# EAGLE library part HEDL554X (library robotter_connector)
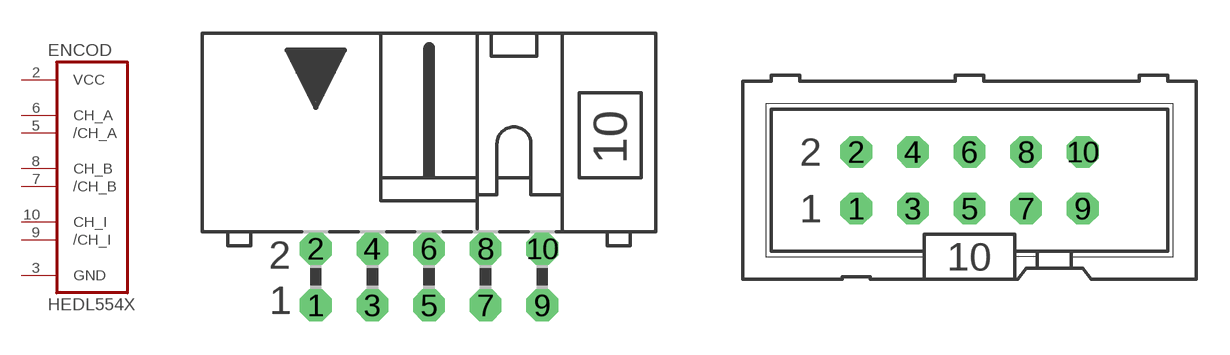
[diagram p17: symbol with the pads of ML10L; footprints ML10L, ML10]

Designator prefix ENCOD

## HEDL554XL  [ML10L]
2  VCC  pas
3  GND  pas
5  /CH_A  pas
6  CH_A  pas
7  /CH_B  pas
8  CH_B  pas
9  /CH_I  pas
10  CH_I  pas

## HEDL554X  [ML10]
Pads as for ML10L

## Footprint ML10L (pad centres in mm)
HARTING
drill 0.914 octagon: 1 -5.08,-1.27; 2 -5.08,1.27; 3 -2.54,-1.27; 4 -2.54,1.27; 5 0,-1.27; 6 0,1.27; 7 2.54,-1.27; 8 2.54,1.27; 9 5.08,-1.27; 10 5.08,1.27

## Footprint ML10 (pad centres in mm)
HARTING
drill 0.914 octagon: 1 -5.08,-1.27; 2 -5.08,1.27; 3 -2.54,-1.27; 4 -2.54,1.27; 5 0,-1.27; 6 0,1.27; 7 2.54,-1.27; 8 2.54,1.27; 9 5.08,-1.27; 10 5.08,1.27